# Altium footprint library SM_L_2520-VLF.PcbLib: 1 footprints
Each footprint in its own frame and in the unit in brackets; x right, y up, seen from the top. Pads: shape width x height; smd on the part's side, far side on the other; paste and mask are expansions set on the pad; w line width, h text height; cw(c..) or ccw(c..) is an arc to the next point about the centre after c.
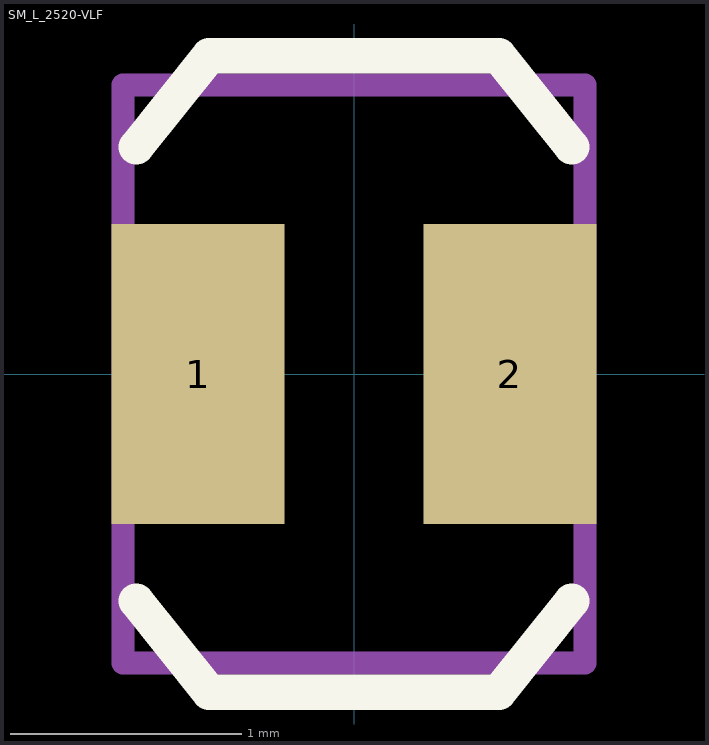
[diagram p0: the footprint, top view; thin cyan lines are the x and y axes]

## SM_L_2520-VLF [mm] "1008 (2520 Metric)"
height 0.001
pads (2):
  rect 0.75x1.3 smd: 1(-0.675,0) 2(0.675,0)
Top Overlay:
  lines w0.152: -0.942,-0.983 -0.627,-1.377 0.627,-1.377 0.942,-0.983 ; -0.942,0.983 -0.627,1.377 0.627,1.377 0.942,0.983
Mechanical 15:
  lines w0.1: -1,-1.25 1,-1.25 1,1.25 -1,1.25 -1,-1.25
3D body: height 1.2, standoff 0, extent -0.999,-1.249 0.999,1.249